# EAGLE library part CHS-08 (library switch-copal)
Copal Electronics, Distributor Bürklin
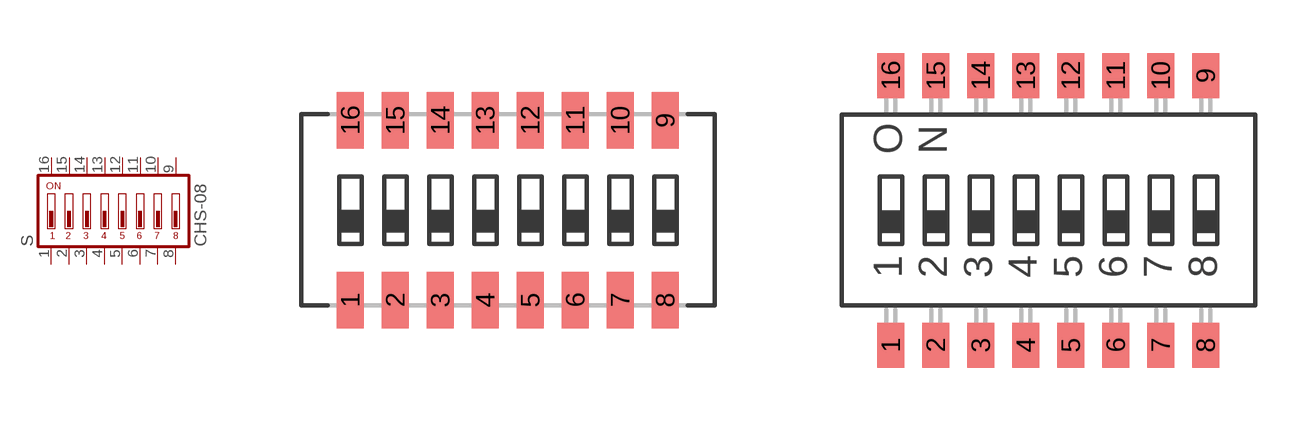
[diagram p1: symbol with the pads of CHS-08A; footprints CHS-08A, CHS-08B]

Designator prefix S

## CHS-08A  [CHS-08A]
1  1  pas
2  2  pas
3  3  pas
4  4  pas
5  5  pas
6  6  pas
7  7  pas
8  8  pas
9  9  pas
10  10  pas
11  11  pas
12  12  pas
13  13  pas
14  14  pas
15  15  pas
16  16  pas

## CHS-08B  [CHS-08B]
Pads as for CHS-08A

## Footprint CHS-08A (pad centres in mm)
8 bits, J-hook
smd 0.76 x 1.6: 1 0,-2.54; 2 1.27,-2.54; 3 2.54,-2.54; 4 3.81,-2.54; 5 5.08,-2.54; 6 6.35,-2.54; 7 7.62,-2.54; 8 8.89,-2.54; 9 8.89,2.54; 10 7.62,2.54; 11 6.35,2.54; 12 5.08,2.54; 13 3.81,2.54; 14 2.54,2.54; 15 1.27,2.54; 16 0,2.54

## Footprint CHS-08B (pad centres in mm)
8 bits, gull wing
smd 0.76 x 1.27: 1 0,-3.81; 2 1.27,-3.81; 3 2.54,-3.81; 4 3.81,-3.81; 5 5.08,-3.81; 6 6.35,-3.81; 7 7.62,-3.81; 8 8.89,-3.81; 9 8.89,3.81; 10 7.62,3.81; 11 6.35,3.81; 12 5.08,3.81; 13 3.81,3.81; 14 2.54,3.81; 15 1.27,3.81; 16 0,3.81